# Altium footprint library Borne_2.PcbLib: 1 footprints
Each footprint in its own frame and in the unit in brackets; x right, y up, seen from the top. Pads: shape width x height; smd on the part's side, far side on the other; paste and mask are expansions set on the pad; w line width, h text height; cw(c..) or ccw(c..) is an arc to the next point about the centre after c.
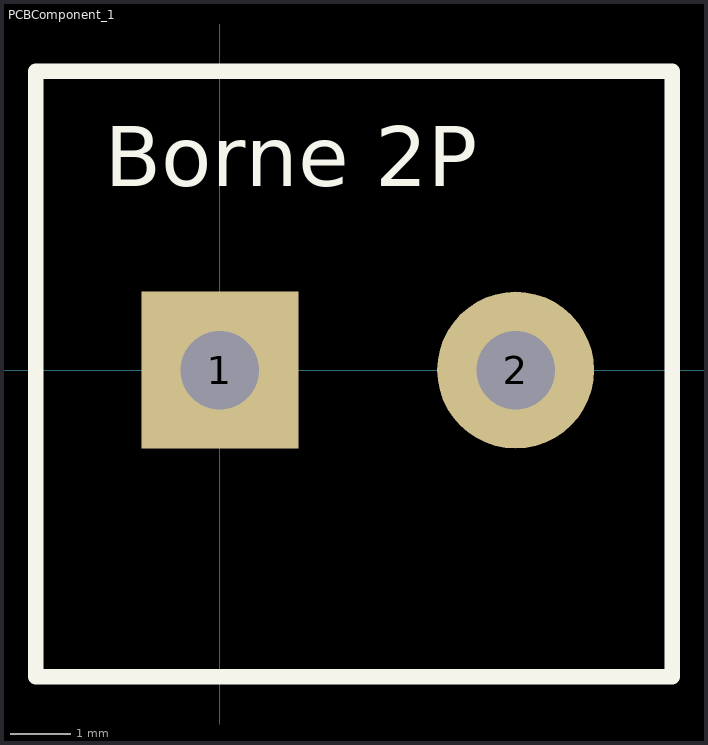
[diagram p0: the footprint, top view; thin cyan lines are the x and y axes]

## PCBComponent_1 [mm]
pads (2):
  rect 2.6x2.6 hole 1.3: 1(0,0)
  round 2.6 hole 1.3: 2(4.9,0)
Top Overlay:
  lines w0.254: -3.048,-5.08 -3.048,4.953 7.493,4.953 7.493,-5.08 -3.048,-5.08
  text "Borne 2P" at -1.905,3.048 h1
3D body "2_Vias.STEP": height 14.49, standoff -3.76, extent -3.041,-5.08 7.359,4.92